# EAGLE library part LM324 (library IntegratedLib)
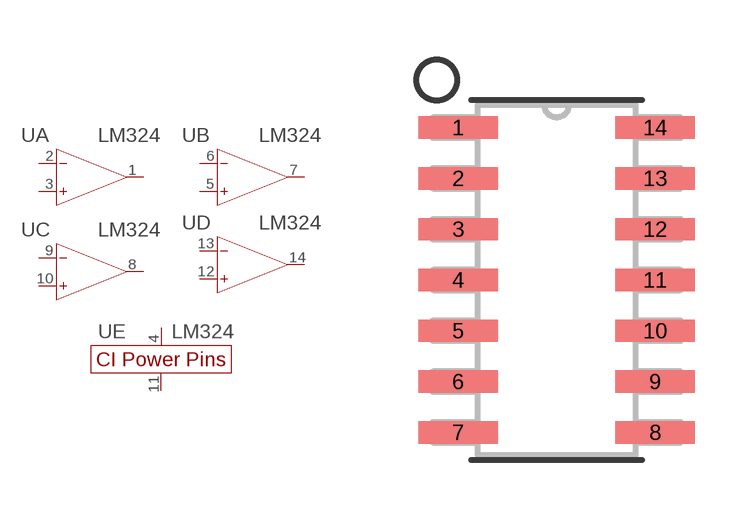
[diagram p53: symbol with the pads of D14_TEX; footprint D14_TEX]

Designator prefix U; gates A=AMP-OP B=AMP-OP C=AMP-OP D=AMP-OP E=POWER_CI

## LM324  [D14_TEX]
1  A:OUT  out
2  A:IN(-)  in
3  A:IN(+)  in
4  E:POWER(+)  pwr
5  B:IN(+)  in
6  B:IN(-)  in
7  B:OUT  out
8  C:OUT  out
9  C:IN(-)  in
10  C:IN(+)  in
11  E:POWER(-)  pwr
12  D:IN(+)  in
13  D:IN(-)  in
14  D:OUT  out

## Footprint D14_TEX (pad centres in mm)
smd 1.981 x 0.559: 1 -2.464,3.81; 2 -2.464,2.54; 3 -2.464,1.27; 4 -2.464,0; 5 -2.464,-1.27; 6 -2.464,-2.54; 7 -2.464,-3.81; 8 2.464,-3.81; 9 2.464,-2.54; 10 2.464,-1.27; 11 2.464,0; 12 2.464,1.27; 13 2.464,2.54; 14 2.464,3.81